# Altium schematic symbol library WR-MJ.SchLib: 82 symbols (part 2 of 2)
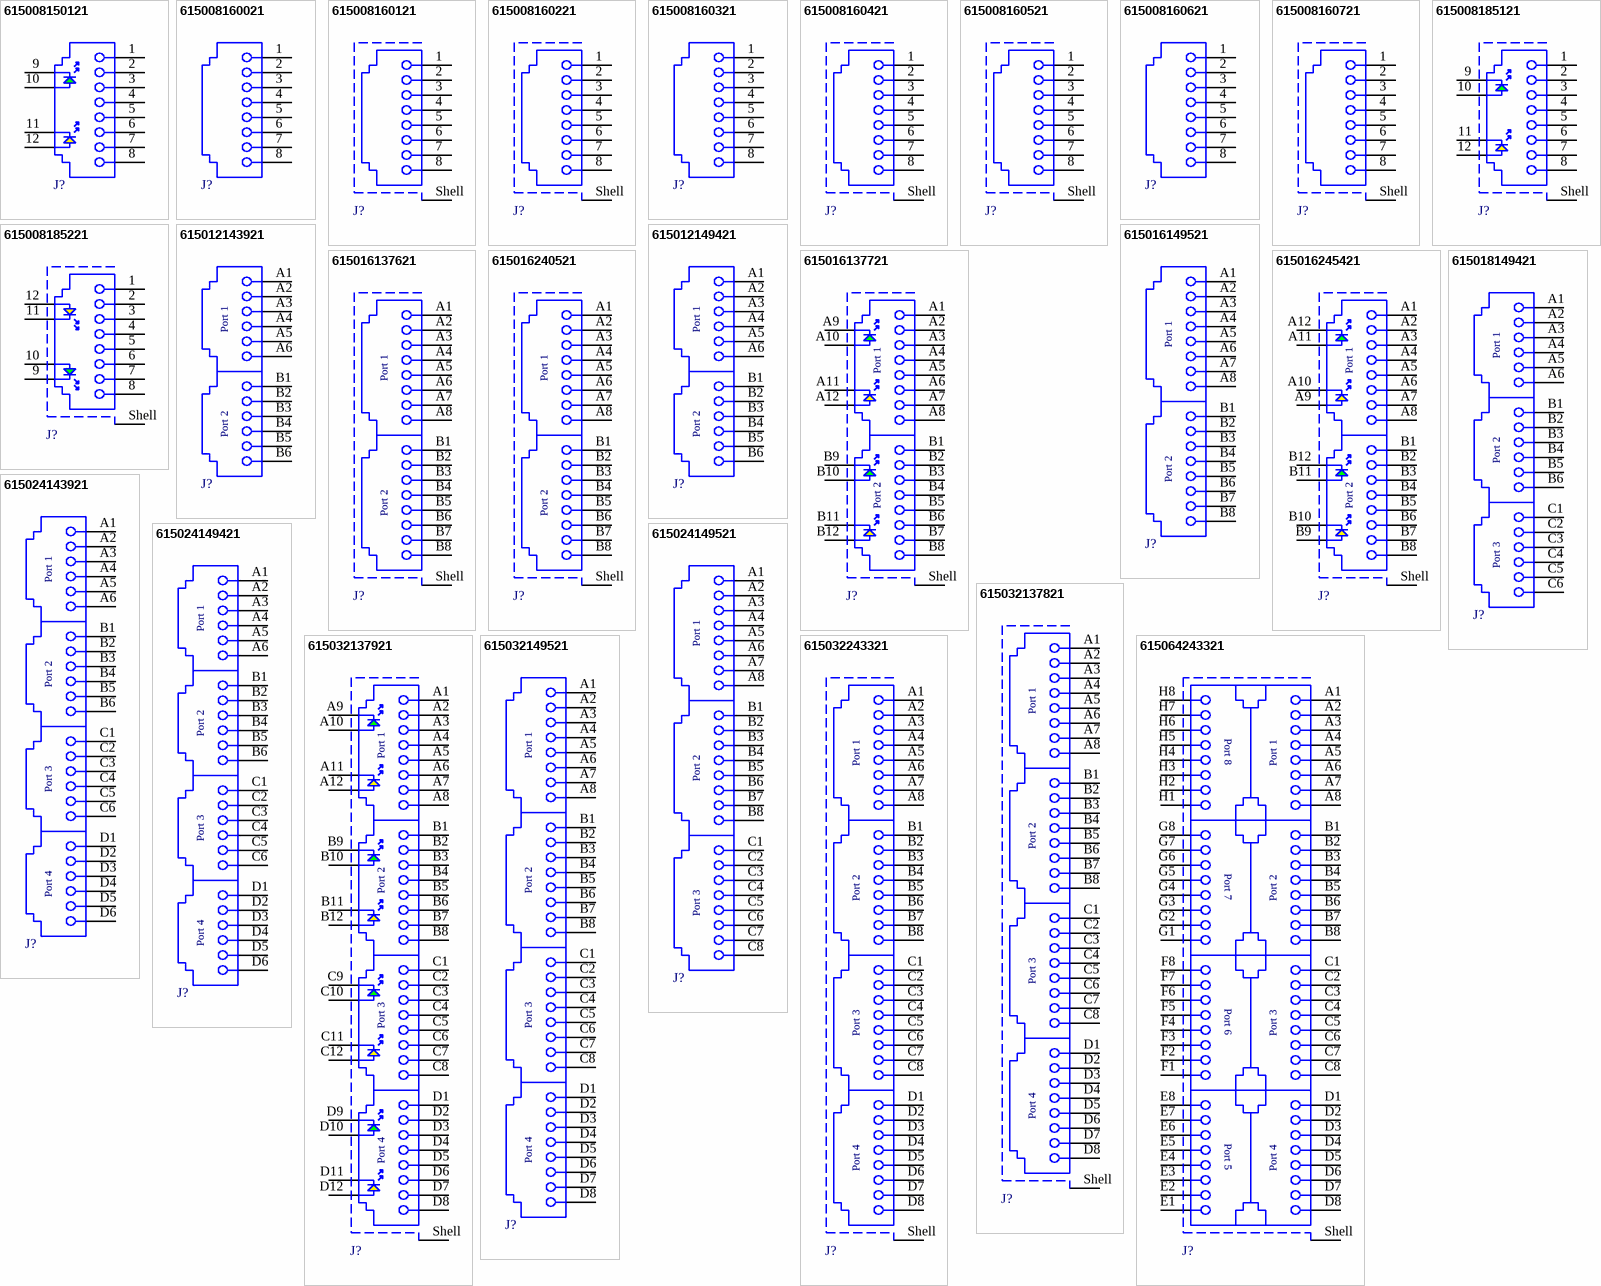
[diagram p3: symbols 615008150121 to 615064243321]

## 615016245421
designator J?  (value not drawn)
WR-MJ Modular Jack THT Horizontal Shielded Dual Stacked with LED and EMI Panel Finger 8P8C Tab Up&Do; Manufacturer: Wurth Elektronik; Contact Resistance: 20mΩ; Insulation Resistance: 500MΩ; LED: Y/G; Number of Ports: 2; Rated Current: 1.5A; Shielding: Yes; Working Voltage: 120VAC; Withstanding Voltage: 1000VAC; ComponentLink1Description: Website Link; ComponentLink1URL: https://www.we-online.com/redexpert/article/615016245421?ad; ComponentLink2Description: Datasheet Link; ComponentLink2URL: https://www.we-online.com/redexpert/spec/615016245421?ad; Manufacturer Part Number: 615016245421; Category: Input/Output Connectors; Match Code: WR-MJ; Mount: Through Hole; Operating Temperature Max: 85°C; Operating Temperature Min: -40°C; Packaging: Tray; Number of Pins: 8P8C; Orientation: Horizontal
footprint 615016245421
pins: A1, A2, A3, A4, A5, A6, A7, A8, A9, A10, A11, A12, B1, B2, B3, B4, B5, B6, B7, B8, B9, B10, B11, B12, Shell
text: Port 1; Port 2

## 615018149421
designator J?  (value not drawn)
WR-MJ Modular Jack THT Horizontal Plastic 6P6C Assembly Tab Up; Manufacturer: Wurth Elektronik; Contact Resistance: 20mΩ; Insulation Resistance: 500MΩ; LED: No; Number of Ports: 3; Rated Current: 1.5A; Working Voltage: 120VAC; Withstanding Voltage: 1000VAC; ComponentLink1Description: Website Link; ComponentLink1URL: https://www.we-online.com/redexpert/article/615018149421?ad; ComponentLink2Description: Datasheet Link; ComponentLink2URL: https://www.we-online.com/redexpert/spec/615018149421?ad; Manufacturer Part Number: 615018149421; Category: Input/Output Connectors; Match Code: WR-MJ; Mount: Through Hole; Operating Temperature Max: 85°C; Operating Temperature Min: -40°C; Packaging: Tray; Number of Pins: 6P6C; Orientation: Horizontal; Shielding: No
footprint 615018149421
pins: A1, A2, A3, A4, A5, A6, B1, B2, B3, B4, B5, B6, C1, C2, C3, C4, C5, C6
text: Port 1; Port 2; Port 3

## 615024143921
designator J?  (value not drawn)
WR-MJ Modular Jack THT Horizontal Plastic 4Port 6P6C Tab Up; Manufacturer: Wurth Elektronik; Contact Resistance: 20mΩ; Insulation Resistance: 500MΩ; LED: No; Number of Ports: 4; Rated Current: 1.5A; Working Voltage: 120VAC; Withstanding Voltage: 1000VAC; ComponentLink1Description: Website Link; ComponentLink1URL: https://www.we-online.com/redexpert/article/615024143921?ad; ComponentLink2Description: Datasheet Link; ComponentLink2URL: https://www.we-online.com/redexpert/spec/615024143921?ad; Manufacturer Part Number: 615024143921; Category: Input/Output Connectors; Match Code: WR-MJ; Mount: Through Hole; Operating Temperature Max: 85°C; Operating Temperature Min: -40°C; Packaging: Tray; Number of Pins: 6P6C; Orientation: Horizontal; Shielding: No
footprint 615024143921
pins: A1, A2, A3, A4, A5, A6, B1, B2, B3, B4, B5, B6, C1, C2, C3, C4, C5, C6, D1, D2, D3, D4, D5, D6
text: Port 1; Port 2; Port 3; Port 4

## 615024149421
designator J?  (value not drawn)
WR-MJ Modular Jack THT Horizontal Plastic 6P6C Assembly Tab Up; Manufacturer: Wurth Elektronik; Contact Resistance: 20mΩ; Insulation Resistance: 500MΩ; LED: No; Number of Ports: 4; Rated Current: 1.5A; Working Voltage: 120VAC; Withstanding Voltage: 1000VAC; ComponentLink1Description: Website Link; ComponentLink1URL: https://www.we-online.com/redexpert/article/615024149421?ad; ComponentLink2Description: Datasheet Link; ComponentLink2URL: https://www.we-online.com/redexpert/spec/615024149421?ad; Manufacturer Part Number: 615024149421; Category: Input/Output Connectors; Match Code: WR-MJ; Mount: Through Hole; Operating Temperature Max: 85°C; Operating Temperature Min: -40°C; Packaging: Tray; Number of Pins: 6P6C; Orientation: Horizontal; Shielding: No
footprint 615024149421
pins: A1, A2, A3, A4, A5, A6, B1, B2, B3, B4, B5, B6, C1, C2, C3, C4, C5, C6, D1, D2, D3, D4, D5, D6
text: Port 1; Port 2; Port 3; Port 4

## 615024149521
designator J?  (value not drawn)
WR-MJ Modular Jack THT Horizontal Plastic 8P8C Assembly Tab Up; Manufacturer: Wurth Elektronik; Contact Resistance: 20mΩ; Insulation Resistance: 500MΩ; LED: No; Number of Ports: 3; Rated Current: 1.5A; Working Voltage: 120VAC; Withstanding Voltage: 1000VAC; ComponentLink1Description: Website Link; ComponentLink1URL: https://www.we-online.com/redexpert/article/615024149521?ad; ComponentLink2Description: Datasheet Link; ComponentLink2URL: https://www.we-online.com/redexpert/spec/615024149521?ad; Manufacturer Part Number: 615024149521; Category: Input/Output Connectors; Match Code: WR-MJ; Mount: Through Hole; Operating Temperature Max: 85°C; Operating Temperature Min: -40°C; Packaging: Tray; Number of Pins: 8P8C; Orientation: Horizontal; Shielding: No
footprint 615024149521
pins: A1, A2, A3, A4, A5, A6, A7, A8, B1, B2, B3, B4, B5, B6, B7, B8, C1, C2, C3, C4, C5, C6, C7, C8
text: Port 1; Port 2; Port 3

## 615032137821
designator J?  (value not drawn)
WR-MJ Modular Jack THT Horizontal Shielded Ganged 4 Ports 8P8C Tab Down; Manufacturer: Wurth Elektronik; Contact Resistance: 20mΩ; Insulation Resistance: 500MΩ; LED: No; Number of Ports: 4; Rated Current: 1.5A; Shielding: Yes; Working Voltage: 120VAC; Withstanding Voltage: 1000VAC; ComponentLink1Description: Website Link; ComponentLink1URL: https://www.we-online.com/redexpert/article/615032137821?ad; ComponentLink2Description: Datasheet Link; ComponentLink2URL: https://www.we-online.com/redexpert/spec/615032137821?ad; Manufacturer Part Number: 615032137821; Category: Input/Output Connectors; Match Code: WR-MJ; Mount: Through Hole; Operating Temperature Max: 85°C; Operating Temperature Min: -40°C; Packaging: Tray; Number of Pins: 8P8C; Orientation: Horizontal
footprint 615032137821
pins: A1, A2, A3, A4, A5, A6, A7, A8, B1, B2, B3, B4, B5, B6, B7, B8, C1, C2, C3, C4, C5, C6, C7, C8, D1, D2, D3, D4, D5, D6, D7, D8, Shell
text: Port 1; Port 2; Port 3; Port 4

## 615032137921
designator J?  (value not drawn)
WR-MJ Modular Jack THT Horizontal Shielded Ganged 4 Ports with LED and EMI Panel Finger 8P8C Tab Up; Manufacturer: Wurth Elektronik; Contact Resistance: 20mΩ; Insulation Resistance: 500MΩ; LED: Y/G; Number of Ports: 4; Rated Current: 1.5A; Shielding: Yes; Working Voltage: 120VAC; Withstanding Voltage: 1000VAC; ComponentLink1Description: Website Link; ComponentLink1URL: https://www.we-online.com/redexpert/article/615032137921?ad; ComponentLink2Description: Datasheet Link; ComponentLink2URL: https://www.we-online.com/redexpert/spec/615032137921?ad; Manufacturer Part Number: 615032137921; Category: Input/Output Connectors; Match Code: WR-MJ; Mount: Through Hole; Operating Temperature Max: 85°C; Operating Temperature Min: -40°C; Packaging: Tray; Number of Pins: 8P8C; Orientation: Horizontal
footprint 615032137921
pins: A1, A2, A3, A4, A5, A6, A7, A8, A9, A10, A11, A12, B1, B2, B3, B4, B5, B6, B7, B8, B9, B10, B11, B12, C1, C2, C3, C4, C5, C6, C7, C8, C9, C10, C11, C12, D1, D2, D3, D4, D5, D6, D7, D8, D9, D10, D11, D12, Shell
text: Port 1; Port 2; Port 3; Port 4

## 615032149521
designator J?  (value not drawn)
WR-MJ Modular Jack THT Horizontal Plastic 8P8C Assembly Tab Up; Manufacturer: Wurth Elektronik; Contact Resistance: 20mΩ; Insulation Resistance: 500MΩ; LED: No; Number of Ports: 4; Rated Current: 1.5A; Working Voltage: 120VAC; Withstanding Voltage: 1000VAC; ComponentLink1Description: Website Link; ComponentLink1URL: https://www.we-online.com/redexpert/article/615032149521?ad; ComponentLink2Description: Datasheet Link; ComponentLink2URL: https://www.we-online.com/redexpert/spec/615032149521?ad; Manufacturer Part Number: 615032149521; Category: Input/Output Connectors; Match Code: WR-MJ; Mount: Through Hole; Operating Temperature Max: 85°C; Operating Temperature Min: -40°C; Packaging: Tray; Number of Pins: 8P8C; Orientation: Horizontal; Shielding: No
footprint 615032149521
pins: A1, A2, A3, A4, A5, A6, A7, A8, B1, B2, B3, B4, B5, B6, B7, B8, C1, C2, C3, C4, C5, C6, C7, C8, D1, D2, D3, D4, D5, D6, D7, D8
text: Port 1; Port 2; Port 3; Port 4

## 615032243321
designator J?  (value not drawn)
WR-MJ Modular Jack THT Horizontal Shielded 2x Dual Stacked with EMI Panel Finger 8P8C Tab Up&Down; Manufacturer: Wurth Elektronik; Contact Resistance: 20mΩ; Insulation Resistance: 500MΩ; LED: No; Number of Ports: 4; Rated Current: 1.5A; Shielding: Yes; Working Voltage: 120VAC; Withstanding Voltage: 1000VAC; ComponentLink1Description: Website Link; ComponentLink1URL: https://www.we-online.com/redexpert/article/615032243321?ad; ComponentLink2Description: Datasheet Link; ComponentLink2URL: https://www.we-online.com/redexpert/spec/615032243321?ad; Manufacturer Part Number: 615032243321; Category: Input/Output Connectors; Match Code: WR-MJ; Mount: Through Hole; Operating Temperature Max: 85°C; Operating Temperature Min: -40°C; Packaging: Tray; Number of Pins: 8P8C; Orientation: Horizontal
footprint 615032243321
pins: A1, A2, A3, A4, A5, A6, A7, A8, B1, B2, B3, B4, B5, B6, B7, B8, C1, C2, C3, C4, C5, C6, C7, C8, D1, D2, D3, D4, D5, D6, D7, D8, Shell
text: Port 1; Port 2; Port 3; Port 4

## 615064243321
designator J?  (value not drawn)
WR-MJ Modular Jack THT Horizontal Shielded 2x4 Stacked with EMI Panel Finger 8P8C Tab Up&Down; Manufacturer: Wurth Elektronik; Contact Resistance: 20mΩ; Insulation Resistance: 500MΩ; LED: No; Number of Ports: 8; Rated Current: 1.5A; Shielding: Yes; Working Voltage: 120VAC; Withstanding Voltage: 1000VAC; ComponentLink1Description: Website Link; ComponentLink1URL: https://www.we-online.com/redexpert/article/615064243321?ad; ComponentLink2Description: Datasheet Link; ComponentLink2URL: https://www.we-online.com/redexpert/spec/615064243321?ad; Manufacturer Part Number: 615064243321; Category: Input/Output Connectors; Match Code: WR-MJ; Mount: Through Hole; Operating Temperature Max: 85°C; Operating Temperature Min: -40°C; Packaging: Tray; Number of Pins: 8P8C; Orientation: Horizontal
footprint 615064243321
pins: A1, A2, A3, A4, A5, A6, A7, A8, B1, B2, B3, B4, B5, B6, B7, B8, C1, C2, C3, C4, C5, C6, C7, C8, D1, D2, D3, D4, D5, D6, D7, D8, E1, E2, E3, E4, E5, E6, E7, E8, F1, F2, F3, F4, F5, F6, F7, F8, G1, G2, G3, G4, G5, G6, G7, G8, H1, H2, H3, H4, H5, H6, H7, H8, Shell
text: Port 8; Port 1; Port 7; Port 2; Port 6; Port 3; Port 5; Port 4

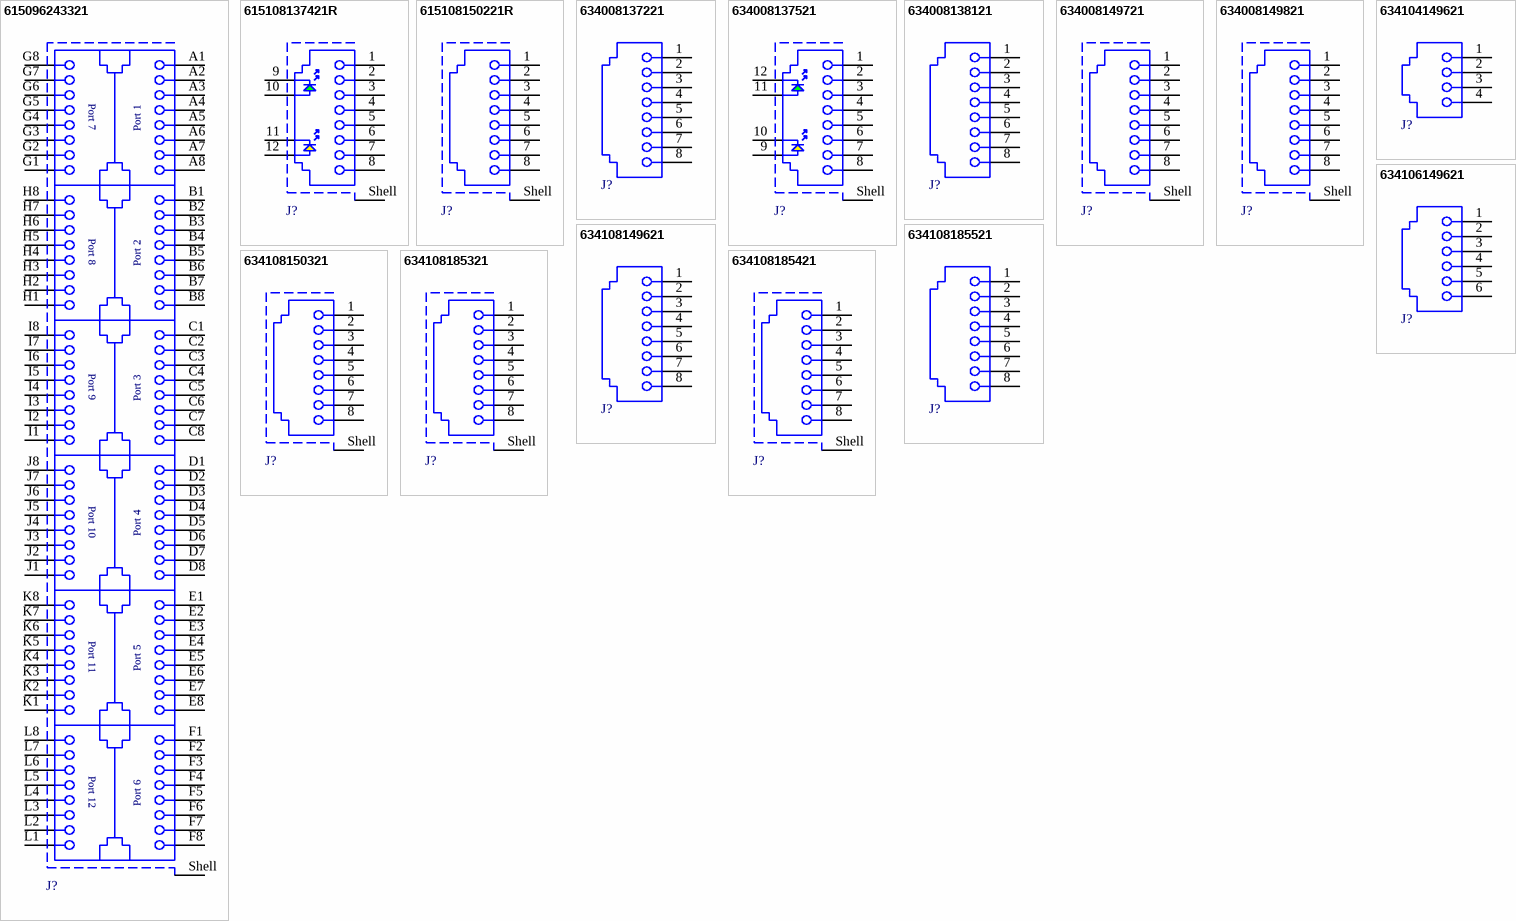
[diagram p2: symbols 615096243321 to 634108185521]

## 615096243321
designator J?  (value not drawn)
WR-MJ Modular Jack THT Horizontal Shielded 2x6 Stacked with EMI Panel Finger 8P8C Tab Up&Down; Manufacturer: Wurth Elektronik; Contact Resistance: 20mΩ; Insulation Resistance: 500MΩ; LED: No; Number of Ports: 12; Rated Current: 1.5A; Shielding: Yes; Working Voltage: 120VAC; Withstanding Voltage: 1000VAC; ComponentLink1Description: Website Link; ComponentLink1URL: https://www.we-online.com/redexpert/article/615096243321?ad; ComponentLink2Description: Datasheet Link; ComponentLink2URL: https://www.we-online.com/redexpert/spec/615096243321?ad; Manufacturer Part Number: 615096243321; Category: Input/Output Connectors; Match Code: WR-MJ; Mount: Through Hole; Operating Temperature Max: 85°C; Operating Temperature Min: -40°C; Packaging: Tray; Number of Pins: 8P8C; Orientation: Horizontal
footprint 615096243321
pins: A1, A2, A3, A4, A5, A6, A7, A8, B1, B2, B3, B4, B5, B6, B7, B8, C1, C2, C3, C4, C5, C6, C7, C8, D1, D2, D3, D4, D5, D6, D7, D8, E1, E2, E3, E4, E5, E6, E7, E8, F1, F2, F3, F4, F5, F6, F7, F8, G1, G2, G3, G4, G5, G6, G7, G8, H1, H2, H3, H4, H5, H6, H7, H8, I1, I2, I3, I4, I5, I6, I7, I8, J1, J2, J3, J4, J5, J6, J7, J8, K1, K2, K3, K4, K5, K6, K7, K8, L1, L2, L3, L4, L5, L6, L7, L8, Shell
text: Port 7; Port 1; Port 8; Port 2; Port 9; Port 3; Port 10; Port 4; Port 11; Port 5; Port 12; Port 6

## 615108137421R
designator J?  (value not drawn)
WR-MJ Modular Jack THR Horizontal Shielded with LED and EMI Finger 8P8C Tab Up; Manufacturer: Wurth Elektronik; Contact Resistance: 30mΩ; Insulation Resistance: 1000MΩ; LED: Y/G; Number of Ports: 1; Rated Current: 1.5A; Shielding: Yes; Working Voltage: 125VAC; Withstanding Voltage: 1000VAC; ComponentLink1Description: Website Link; ComponentLink1URL: https://www.we-online.com/redexpert/article/615108137421R?ad; ComponentLink2Description: Datasheet Link; ComponentLink2URL: https://www.we-online.com/redexpert/spec/615108137421R?ad; Manufacturer Part Number: 615108137421R; Category: Input/Output Connectors; Match Code: WR-MJ; Mount: Surface Mount; Operating Temperature Max: 85°C; Operating Temperature Min: -40°C; Packaging: Tape and Reel; Number of Pins: 8P8C; Orientation: Horizontal
footprint 615108137421R
pins: 1, 2, 3, 4, 5, 6, 7, 8, 9, 10, 11, 12, Shell

## 615108150221R
designator J?  (value not drawn)
WR-MJ Modular Jack THR Horizontal Mid-Mount Shielded 8P8C Tab Down; Manufacturer: Wurth Elektronik; Contact Resistance: 20mΩ; Insulation Resistance: 1000MΩ; LED: No; Number of Ports: 1; Rated Current: 1.5A; Shielding: Yes; Working Voltage: 125VAC; Withstanding Voltage: 1000VAC; ComponentLink1Description: Website Link; ComponentLink1URL: https://www.we-online.com/redexpert/article/615108150221R?ad; ComponentLink2Description: Datasheet Link; ComponentLink2URL: https://www.we-online.com/redexpert/spec/615108150221R?ad; Manufacturer Part Number: 615108150221R; Category: Input/Output Connectors; Match Code: WR-MJ; Mount: Surface Mount; Operating Temperature Max: 85°C; Operating Temperature Min: -40°C; Packaging: Tape and Reel; Number of Pins: 8P8C; Orientation: Horizontal
footprint 615108150221R
pins: 1, 2, 3, 4, 5, 6, 7, 8, Shell

## 634008137221
designator J?  (value not drawn)
WR-MJ Modular Jack SMT Horizontal Plastic 8P8C Tab Down; Manufacturer: Wurth Elektronik; Contact Resistance: 20mΩ; Insulation Resistance: 500MΩ; LED: No; Number of Ports: 1; Rated Current: 1.5A; Working Voltage: 120VAC; Withstanding Voltage: 1000VAC; ComponentLink1Description: Website Link; ComponentLink1URL: https://www.we-online.com/redexpert/article/634008137221?ad; ComponentLink2Description: Datasheet Link; ComponentLink2URL: https://www.we-online.com/redexpert/spec/634008137221?ad; Manufacturer Part Number: 634008137221; Category: Input/Output Connectors; Match Code: WR-MJ; Mount: Surface Mount; Operating Temperature Max: 85°C; Operating Temperature Min: -40°C; Packaging: Tray; Number of Pins: 8P8C; Orientation: Horizontal; Shielding: No
footprint 634008137221
pins: 1, 2, 3, 4, 5, 6, 7, 8

## 634008137521
designator J?  (value not drawn)
WR-MJ Modular Jack SMT Horizontal Shielded with LED and EMI Panel Finger 8P8C Tab Up; Manufacturer: Wurth Elektronik; Contact Resistance: 20mΩ; Insulation Resistance: 500MΩ; LED: Y/G; Number of Ports: 1; Rated Current: 1.5A; Shielding: Yes; Working Voltage: 120VAC; Withstanding Voltage: 1000VAC; ComponentLink1Description: Website Link; ComponentLink1URL: https://www.we-online.com/redexpert/article/634008137521?ad; ComponentLink2Description: Datasheet Link; ComponentLink2URL: https://www.we-online.com/redexpert/spec/634008137521?ad; Manufacturer Part Number: 634008137521; Category: Input/Output Connectors; Match Code: WR-MJ; Mount: Surface Mount; Operating Temperature Max: 85°C; Operating Temperature Min: -40°C; Packaging: Tape and Reel; Number of Pins: 8P8C; Orientation: Horizontal
footprint 634008137521
pins: 1, 2, 3, 4, 5, 6, 7, 8, 9, 10, 11, 12, Shell

## 634008138121
designator J?  (value not drawn)
WR-MJ Modular Jack SMT Vertical Plastic 8P8C; Manufacturer: Wurth Elektronik; Contact Resistance: 20mΩ; Insulation Resistance: 500MΩ; LED: No; Number of Ports: 1; Rated Current: 1.5A; Working Voltage: 120VAC; Withstanding Voltage: 1000VAC; ComponentLink1Description: Website Link; ComponentLink1URL: https://www.we-online.com/redexpert/article/634008138121?ad; ComponentLink2Description: Datasheet Link; ComponentLink2URL: https://www.we-online.com/redexpert/spec/634008138121?ad; Manufacturer Part Number: 634008138121; Category: Input/Output Connectors; Match Code: WR-MJ; Mount: Surface Mount; Operating Temperature Max: 85°C; Operating Temperature Min: -40°C; Packaging: Tray; Number of Pins: 8P8C; Orientation: Vertical; Shielding: No
footprint 634008138121
pins: 1, 2, 3, 4, 5, 6, 7, 8

## 634008149721
designator J?  (value not drawn)
WR-MJ Modular Jack SMT Horizontal Shielded with EMI Panel Finger 8P8C; Manufacturer: Wurth Elektronik; Contact Resistance: 20mΩ; Insulation Resistance: 500MΩ; LED: No; Number of Ports: 1; Rated Current: 1.5A; Shielding: Yes; Working Voltage: 120VAC; Withstanding Voltage: 1000VAC; ComponentLink1Description: Website Link; ComponentLink1URL: https://www.we-online.com/redexpert/article/634008149721?ad; ComponentLink2Description: Datasheet Link; ComponentLink2URL: https://www.we-online.com/redexpert/spec/634008149721?ad; Manufacturer Part Number: 634008149721; Category: Input/Output Connectors; Match Code: WR-MJ; Mount: Surface Mount; Operating Temperature Max: 85°C; Operating Temperature Min: -40°C; Packaging: Tray; Number of Pins: 8P8C; Orientation: Horizontal
footprint 634008149721
pins: 1, 2, 3, 4, 5, 6, 7, 8, Shell

## 634008149821
designator J?  (value not drawn)
WR-MJ Modular Jack SMT Horizontal Shielded 8P8C Tab Up; Manufacturer: Wurth Elektronik; Contact Resistance: 20mΩ; Insulation Resistance: 500MΩ; LED: No; Number of Ports: 1; Rated Current: 1.5A; Shielding: Yes; Working Voltage: 120VAC; Withstanding Voltage: 1000VAC; ComponentLink1Description: Website Link; ComponentLink1URL: https://www.we-online.com/redexpert/article/634008149821?ad; ComponentLink2Description: Datasheet Link; ComponentLink2URL: https://www.we-online.com/redexpert/spec/634008149821?ad; Manufacturer Part Number: 634008149821; Category: Input/Output Connectors; Match Code: WR-MJ; Mount: Surface Mount; Operating Temperature Max: 85°C; Operating Temperature Min: -40°C; Packaging: Tray; Number of Pins: 8P8C; Orientation: Horizontal
footprint 634008149821
pins: 1, 2, 3, 4, 5, 6, 7, 8, Shell

## 634104149621
designator J?  (value not drawn)
WR-MJ Modular Jack SMT Vertical Plastic 4P4C Top Entry; Manufacturer: Wurth Elektronik; Contact Resistance: 20mΩ; Insulation Resistance: 500MΩ; LED: No; Number of Ports: 1; Rated Current: 1.5A; Working Voltage: 120VAC; Withstanding Voltage: 1000VAC; ComponentLink1Description: Website Link; ComponentLink1URL: https://www.we-online.com/redexpert/article/634104149621?ad; ComponentLink2Description: Datasheet Link; ComponentLink2URL: https://www.we-online.com/redexpert/spec/634104149621?ad; Manufacturer Part Number: 634104149621; Category: Input/Output Connectors; Match Code: WR-MJ; Mount: Surface Mount; Operating Temperature Max: 85°C; Operating Temperature Min: -40°C; Packaging: Tape and Reel; Number of Pins: 4P4C; Orientation: Vertical; Shielding: No
footprint 634104149621
pins: 1, 2, 3, 4

## 634106149621
designator J?  (value not drawn)
WR-MJ Modular Jack SMT Vertical Plastic 6P6C Top Entry; Manufacturer: Wurth Elektronik; Contact Resistance: 20mΩ; Insulation Resistance: 500MΩ; LED: No; Number of Ports: 1; Rated Current: 1.5A; Working Voltage: 120VAC; Withstanding Voltage: 1000VAC; ComponentLink1Description: Website Link; ComponentLink1URL: https://www.we-online.com/redexpert/article/634106149621?ad; ComponentLink2Description: Datasheet Link; ComponentLink2URL: https://www.we-online.com/redexpert/spec/634106149621?ad; Manufacturer Part Number: 634106149621; Category: Input/Output Connectors; Match Code: WR-MJ; Mount: Surface Mount; Operating Temperature Max: 85°C; Operating Temperature Min: -40°C; Packaging: Tape and Reel; Number of Pins: 6P6C; Orientation: Vertical; Shielding: No
footprint 634106149621
pins: 1, 2, 3, 4, 5, 6

## 634108149621
designator J?  (value not drawn)
WR-MJ Modular Jack SMT Vertical Plastic 8P8C Top Entry; Manufacturer: Wurth Elektronik; Contact Resistance: 20mΩ; Insulation Resistance: 500MΩ; LED: No; Number of Ports: 1; Rated Current: 1.5A; Working Voltage: 120VAC; Withstanding Voltage: 1000VAC; ComponentLink1Description: Website Link; ComponentLink1URL: https://www.we-online.com/redexpert/article/634108149621?ad; ComponentLink2Description: Datasheet Link; ComponentLink2URL: https://www.we-online.com/redexpert/spec/634108149621?ad; Manufacturer Part Number: 634108149621; Category: Input/Output Connectors; Match Code: WR-MJ; Mount: Surface Mount; Operating Temperature Max: 85°C; Operating Temperature Min: -40°C; Packaging: Tape and Reel; Number of Pins: 8P8C; Orientation: Vertical; Shielding: No
footprint 634108149621
pins: 1, 2, 3, 4, 5, 6, 7, 8

## 634108150321
designator J?  (value not drawn)
WR-MJ Modular Jack SMT Horizontal Mid-Mount Shielded 8P8C Tab Up; Manufacturer: Wurth Elektronik; Contact Resistance: 20mΩ; Insulation Resistance: 1000MΩ; LED: No; Number of Ports: 1; Rated Current: 1.5A; Shielding: Yes; Working Voltage: 125VAC; Withstanding Voltage: 1000VAC; ComponentLink1Description: Website Link; ComponentLink1URL: https://www.we-online.com/redexpert/article/634108150321?ad; ComponentLink2Description: Datasheet Link; ComponentLink2URL: https://www.we-online.com/redexpert/spec/634108150321?ad; Manufacturer Part Number: 634108150321; Category: Input/Output Connectors; Match Code: WR-MJ; Mount: Surface Mount; Operating Temperature Max: 85°C; Operating Temperature Min: -40°C; Packaging: Tape and Reel; Number of Pins: 8P8C; Orientation: Horizontal
footprint 634108150321
pins: 1, 2, 3, 4, 5, 6, 7, 8, Shell

## 634108185321
designator J?  (value not drawn)
WR-MJ Modular Jack SMT Vertical Shielded with Solder Tab 8P8C Top Entry; Manufacturer: Wurth Elektronik; Contact Resistance: 30mΩ; Insulation Resistance: 1000MΩ; LED: No; Number of Ports: 1; Rated Current: 1.5A; Shielding: Yes; Working Voltage: 125VAC; Withstanding Voltage: 1000VAC; ComponentLink1Description: Website Link; ComponentLink1URL: https://www.we-online.com/redexpert/article/634108185321?ad; ComponentLink2Description: Datasheet Link; ComponentLink2URL: https://www.we-online.com/redexpert/spec/634108185321?ad; Manufacturer Part Number: 634108185321; Category: Input/Output Connectors; Match Code: WR-MJ; Mount: Surface Mount; Operating Temperature Max: 85°C; Operating Temperature Min: -40°C; Packaging: Tape and Reel; Number of Pins: 8P8C; Orientation: Vertical
footprint 634108185321
pins: 1, 2, 3, 4, 5, 6, 7, 8, Shell

## 634108185421
designator J?  (value not drawn)
WR-MJ Modular Jack SMT Horizontal Shielded 8P8C Tab Down; Manufacturer: Wurth Elektronik; Contact Resistance: 35mΩ; Insulation Resistance: 1000MΩ; LED: No; Number of Ports: 1; Rated Current: 1.5A; Shielding: Yes; Working Voltage: 125VAC; Withstanding Voltage: 1000VAC; ComponentLink1Description: Website Link; ComponentLink1URL: https://www.we-online.com/redexpert/article/634108185421?ad; ComponentLink2Description: Datasheet Link; ComponentLink2URL: https://www.we-online.com/redexpert/spec/634108185421?ad; Manufacturer Part Number: 634108185421; Category: Input/Output Connectors; Match Code: WR-MJ; Mount: Surface Mount; Operating Temperature Max: 85°C; Operating Temperature Min: -40°C; Packaging: Tape and Reel; Number of Pins: 8P8C; Orientation: Horizontal
footprint 634108185421
pins: 1, 2, 3, 4, 5, 6, 7, 8, Shell

## 634108185521
designator J?  (value not drawn)
WR-MJ Modular Jack SMT Horizontal Plastic 8P8C Tab Down; Manufacturer: Wurth Elektronik; Contact Resistance: 35mΩ; Insulation Resistance: 1000MΩ; LED: No; Number of Ports: 1; Rated Current: 1.5A; Working Voltage: 125VAC; Withstanding Voltage: 1000VAC; ComponentLink1Description: Website Link; ComponentLink1URL: https://www.we-online.com/redexpert/article/634108185521?ad; ComponentLink2Description: Datasheet Link; ComponentLink2URL: https://www.we-online.com/redexpert/spec/634108185521?ad; Manufacturer Part Number: 634108185521; Category: Input/Output Connectors; Match Code: WR-MJ; Mount: Surface Mount; Operating Temperature Max: 85°C; Operating Temperature Min: -40°C; Packaging: Tape and Reel; Number of Pins: 8P8C; Orientation: Horizontal; Shielding: No
footprint 634108185521
pins: 1, 2, 3, 4, 5, 6, 7, 8